# Altium schematic symbol library SN74LVC1GX04.SchLib: 1 symbol
Pins are listed as number, name and electrical type; pins without a type are passive.

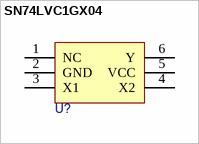
[diagram p0: symbol SN74LVC1GX04]

## SN74LVC1GX04
designator U?
pins: 1 NC, 2 GND, 3 X1, 4 X2, 5 VCC, 6 Y